# Altium footprint library 常用元件.PcbLib: 186 footprints (part 9 of 12)
Each footprint in its own frame and in the unit in brackets; x right, y up, seen from the top. Pads: shape width x height; smd on the part's side, far side on the other; paste and mask are expansions set on the pad; w line width, h text height; cw(c..) or ccw(c..) is an arc to the next point about the centre after c.
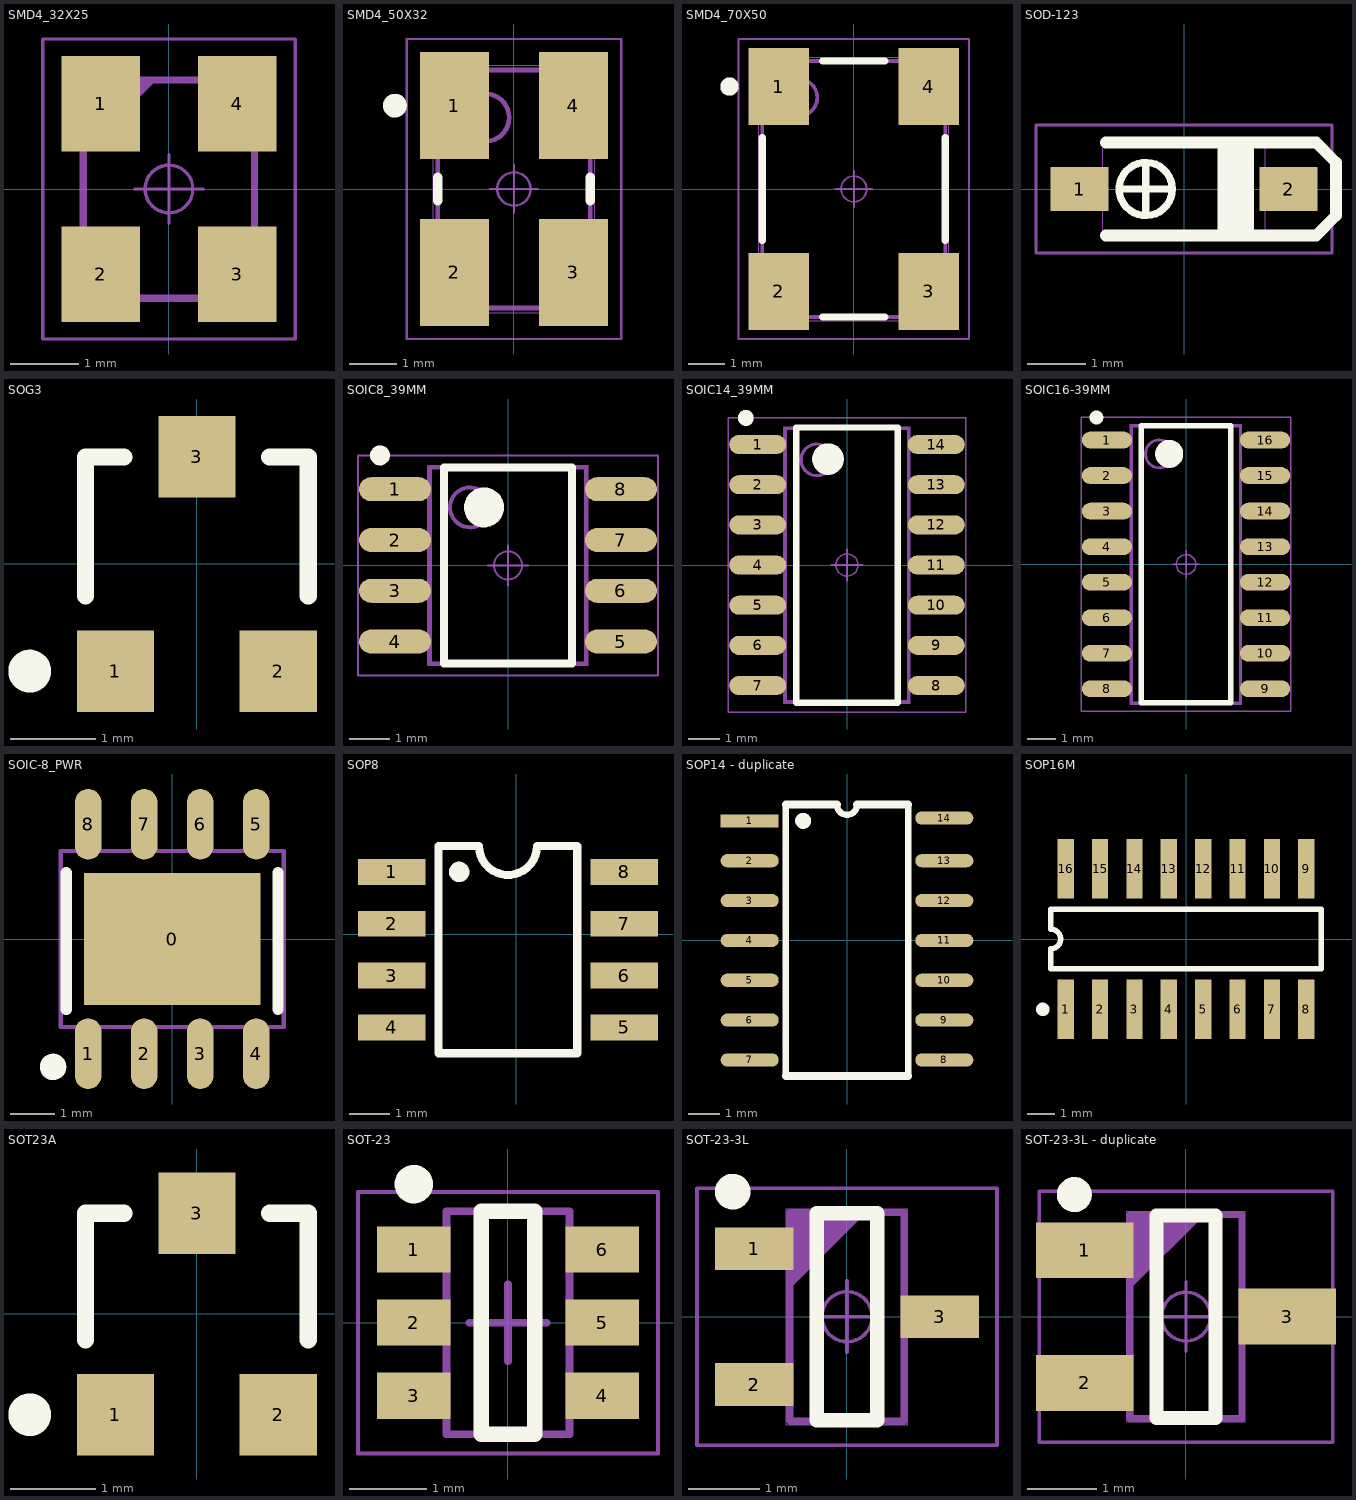
[diagram p8: the footprints below, top view; thin cyan lines are the x and y axes]

## SMD4_32X25 [mm]
pads (4):
  rect 1.15x1.4 smd: 1(-1,1.25) 2(-1,-1.25) 3(1,-1.25) 4(1,1.25)
Mechanical 15:
  lines w0.1: -1.25,0.6 -0.25,1.6 ; -1.25,0.7 -0.35,1.6 ; -1.25,0.8 -0.45,1.6 ; -1.25,0.9 -0.55,1.6 ; -1.25,1 -0.65,1.6 ; -1.25,1.1 -0.75,1.6 ; -1.25,1.2 -0.85,1.6 ; -1.25,1.3 -0.95,1.6 ; -1.25,1.4 -1.05,1.6 ; -1.25,1.5 -1.15,1.6 ; -1.25,-1.6 -1.25,1.6 1.25,1.6 1.25,-1.6 -1.25,-1.6
Mechanical 16:
  circle w0.05: c0,0 r0.35
  lines w0.001: -1.3,-1.65 -1.3,1.65 1.3,1.65 1.3,-1.65 -1.3,-1.65
  lines w0.05: -0.5,0 0.5,0 ; 0,-0.5 0,0.5 ; -1.85,-2.2 -1.85,2.2 1.85,2.2 1.85,-2.2 -1.85,-2.2

## SMD4_50X32 [mm]
pads (4):
  rect 1.45x2.25 smd: 1(-1.25,1.75) 2(-1.25,-1.75) 3(1.25,-1.75) 4(1.25,1.75)
Top Overlay:
  circle w0.25: c-2.5,1.75 r0.125
  lines w0.2: -1.6,-0.25 -1.6,0.25 ; 1.6,-0.25 1.6,0.25
Mechanical 15:
  circle w0.1: c-0.6,1.5 r0.5
  lines w0.1: -1.6,-2.5 -1.6,2.5 1.6,2.5 1.6,-2.5 -1.6,-2.5
Mechanical 16:
  circle w0.05: c0,0 r0.35
  lines w0.001: -1.7,-2.6 -1.7,2.6 1.7,2.6 1.7,-2.6 -1.7,-2.6
  lines w0.05: -0.5,0 0.5,0 ; 0,-0.5 0,0.5 ; -2.25,-3.15 -2.25,3.15 2.25,3.15 2.25,-3.15 -2.25,-3.15

## SMD4_70X50 [mm]
pads (4):
  rect 1.65x2.1 smd: 1(-2.05,2.8) 2(-2.05,-2.8) 3(2.05,-2.8) 4(2.05,2.8)
Top Overlay:
  circle w0.25: c-3.4,2.8 r0.125
  lines w0.2: -2.5,-1.4 -2.5,1.4 ; -0.85,-3.5 0.85,-3.5 ; -0.85,3.5 0.85,3.5 ; 2.5,-1.4 2.5,1.4
Mechanical 15:
  circle w0.1: c-1.5,2.5 r0.5
  lines w0.1: -2.5,-3.5 -2.5,3.5 2.5,3.5 2.5,-3.5 -2.5,-3.5
Mechanical 16:
  circle w0.05: c0,0 r0.35
  lines w0.001: -2.6,-3.6 -2.6,3.6 2.6,3.6 2.6,-3.6 -2.6,-3.6
  lines w0.05: -0.5,0 0.5,0 ; 0,-0.5 0,0.5 ; -3.15,-4.1 -3.15,4.1 3.15,4.1 3.15,-4.1 -3.15,-4.1

## SOD-123 [mm]
pads (2):
  rect 1x0.75 smd: 1(-1.8,0) 2(1.8,0)
Top Overlay:
  circle w0.127: c-0.66,0 r0.457
  lines w0.127: -1.118,0 -0.229,0 ; -0.66,-0.457 -0.66,0.457 ; 1.016,-0.762 1.016,0.8
  lines w0.2: -1.35,-0.8 1.35,-0.8 2.273,-0.8 2.616,-0.457 2.616,0.457 2.273,0.8 1.35,0.8 -1.35,0.8 ; 0.676,-0.8 0.676,0.8 ; 0.864,-0.8 0.864,0.8 ; 1.102,-0.8 1.102,0.8
Mechanical 15:
  lines w0.1: -1.35,-0.8 1.35,-0.8 ; -1.35,0.8 1.35,0.8
Mechanical 16:
  lines w0.001: -1.4,-0.85 1.4,-0.85 1.4,0.85 -1.4,0.85 -1.4,-0.85
  lines w0.05: -2.55,-1.1 2.55,-1.1 2.55,1.1 -2.55,1.1 -2.55,-1.1

## SOG3 [mm]
pads (3):
  rect 0.9x0.95 smd: 1(-0.95,-1.25) 2(0.95,-1.25) 3(0,1.25)
Top Overlay:
  circle w0.25: c-1.95,-1.25 r0.125
  lines w0.2: -1.3,-0.375 -1.3,1.25 -0.85,1.25 ; 0.85,1.25 1.3,1.25 1.3,-0.375
3D body: height 0.68, standoff -0.42, extent -1.1,-1.174 1.1,1.072

## SOIC8_39MM [mm]
pads (8):
  oval 1.8x0.6 smd: 1(-2.825,1.905) 2(-2.825,0.635) 3(-2.825,-0.635) 4(-2.825,-1.905) 5(2.825,-1.905) 6(2.825,-0.635) 7(2.825,0.635) 8(2.825,1.905)
Top Overlay:
  circle w0.5: c-0.6,1.45 r0.25
  circle w0.25: c-3.2,2.75 r0.125
  lines w0.2: -1.6,-2.45 1.6,-2.45 1.6,2.45 -1.6,2.45 -1.6,-2.45
Mechanical 15:
  circle w0.1: c-0.95,1.45 r0.5
  lines w0.1: -1.95,-2.45 1.95,-2.45 1.95,2.45 -1.95,2.45 -1.95,-2.45
  text "1" at 0.45,-0.164 h0.75
Mechanical 16:
  circle w0.05: c0,0 r0.35
  lines w0.001: -2,-2.5 2,-2.5 2,2.5 -2,2.5 -2,-2.5
  lines w0.05: -0.5,0 0.5,0 ; 0,-0.5 0,0.5 ; -3.75,-2.75 3.75,-2.75 3.75,2.75 -3.75,2.75 -3.75,-2.75

## SOIC14_39MM [mm]
pads (14):
  oval 1.8x0.6 smd: 1(-2.825,3.81) 2(-2.825,2.54) 3(-2.825,1.27) 4(-2.825,0) 5(-2.825,-1.27) 6(-2.825,-2.54) 7(-2.825,-3.81) 8(2.825,-3.81) 9(2.825,-2.54) 10(2.825,-1.27) 11(2.825,0) 12(2.825,1.27) 13(2.825,2.54) 14(2.825,3.81)
Top Overlay:
  circle w0.5: c-0.6,3.35 r0.25
  circle w0.25: c-3.2,4.65 r0.125
  lines w0.2: -1.6,-4.35 1.6,-4.35 1.6,4.35 -1.6,4.35 -1.6,-4.35
Mechanical 15:
  circle w0.1: c-0.95,3.325 r0.5
  lines w0.1: -1.95,-4.325 1.95,-4.325 1.95,4.325 -1.95,4.325 -1.95,-4.325
  text "1" at 0.45,-0.164 h0.75
Mechanical 16:
  circle w0.05: c0,0 r0.35
  lines w0.001: -2,-4.375 2,-4.375 2,4.375 -2,4.375 -2,-4.375
  lines w0.05: -0.5,0 0.5,0 ; 0,-0.5 0,0.5 ; -3.75,-4.65 3.75,-4.65 3.75,4.65 -3.75,4.65 -3.75,-4.65

## SOIC16-39MM [mm]
pads (16):
  oval 1.8x0.6 smd: 1(-2.825,4.445) 2(-2.825,3.175) 3(-2.825,1.905) 4(-2.825,0.635) 5(-2.825,-0.635) 6(-2.825,-1.905) 7(-2.825,-3.175) 8(-2.825,-4.445) 9(2.825,-4.445) 10(2.825,-3.175) 11(2.825,-1.905) 12(2.825,-0.635) 13(2.825,0.635) 14(2.825,1.905) 15(2.825,3.175) 16(2.825,4.445)
Top Overlay:
  circle w0.5: c-0.6,3.95 r0.25
  circle w0.25: c-3.2,5.25 r0.125
  lines w0.2: -1.6,-4.95 1.6,-4.95 1.6,4.95 -1.6,4.95 -1.6,-4.95
Mechanical 15:
  circle w0.1: c-0.95,3.95 r0.5
  lines w0.1: -1.95,-4.95 1.95,-4.95 1.95,4.95 -1.95,4.95 -1.95,-4.95
  text "1" at 0.45,-0.164 h0.75
Mechanical 16:
  circle w0.05: c0,0 r0.35
  lines w0.001: -1.995,-5 1.995,-5 1.995,5 -1.995,5 -1.995,-5
  lines w0.05: -0.5,0 0.5,0 ; 0,-0.5 0,0.5 ; -3.75,-5.25 3.75,-5.25 3.75,5.25 -3.75,5.25 -3.75,-5.25

## SOIC-8_PWR [mm]
pads (9):
  rect 4x3 smd: 0(0,0)
  oval 0.6x1.6 smd: 1(-1.905,-2.6) 2(-0.635,-2.6) 3(0.635,-2.6) 4(1.905,-2.6) 5(1.905,2.6) 6(0.635,2.6) 7(-0.635,2.6) 8(-1.905,2.6)
Top Overlay:
  circle w0.3: c-2.7,-2.9 r0.15
  lines w0.254: -2.4,-1.6 -2.4,1.5 ; 2.4,-1.6 2.4,1.5
Mechanical 13:
  lines w0.1: -2.525,-1.995 -2.525,1.995 2.525,1.995 2.525,-1.995 -2.525,-1.995

## SOP8 [mil]
pads (8):
  rect 65x25 smd: 1(-120,60) 2(-120,10) 3(-120,-40) 4(-120,-90) 5(104.41,-90) 6(104.41,-40) 7(104.41,10) 8(104.41,60)
Top Overlay:
  circle w9.84: c-54.92,60 r4.92
  lines w7.87: -74.8,-115 -74.8,85 -35.8,85 ccw(c-7.8,85) 20.2,85 59.06,85 59.06,-115 -74.8,-115

## SOP14 - duplicate [mm]
pads (14):
  rect 1.85x0.42 smd: 1(-3.1,3.81)
  oval 1.85x0.42 smd: 2(-3.1,2.54) 3(-3.1,1.27) 4(-3.1,0) 5(-3.1,-1.27) 6(-3.1,-2.54) 7(-3.1,-3.81) 8(3.1,-3.81) 9(3.1,-2.54) 10(3.1,-1.27) 11(3.1,0) 12(3.1,1.27) 13(3.1,2.54) 14(3.1,3.9)
Top Overlay:
  circle w0.254: c-1.397,3.81 r0.127
  lines w0.2: -1.95,-4.325 -1.95,0 -1.95,4.325 ; -0.318,4.318 ccw(c0,4.318) 0.318,4.318 ; 1.95,-4.325 1.95,4.325
  lines w0.254: -1.95,-4.325 1.95,-4.325 ; -1.95,4.325 -0.318,4.325 ; 0.318,4.325 1.95,4.325

## SOP16M [mm]
pads (16):
  rect 0.6x2.2 smd: 1(-4.445,-2.6) 2(-3.175,-2.6) 3(-1.905,-2.6) 4(-0.635,-2.6) 5(0.635,-2.6) 6(1.905,-2.6) 7(3.175,-2.6) 8(4.445,-2.6) 9(4.445,2.6) 10(3.175,2.6) 11(1.905,2.6) 12(0.635,2.6) 13(-0.635,2.6) 14(-1.905,2.6) 15(-3.175,2.6) 16(-4.445,2.6)
Top Overlay:
  circle w0.25: c-5.295,-2.6 r0.125
  lines w0.2: -5,-1.1 -5,-0.367 ccw(c-5,0) -5,0.367 -5,1.1 5,1.1 5,-1.1 -5,-1.1

## SOT23A [mm] "S9015(M6)、S8050(J3Y)"
pads (3):
  rect 0.9x0.95 smd: 1(-0.95,-1.175) 2(0.95,-1.175) 3(0,1.175)
Top Overlay:
  circle w0.25: c-1.95,-1.175 r0.125
  lines w0.2: -1.3,-0.3 -1.3,1.175 -0.85,1.175 ; 0.85,1.175 1.3,1.175 1.3,-0.3

## SOT-23 [mm] "SOT23, 6-Leads, Body 2.90x2.80mm, Pitch 0.95mm, IPC Medium Density"
height 1.45
pads (6):
  rect 0.95x0.6 smd: 1(-1.225,0.95) 2(-1.225,0) 3(-1.225,-0.95) 4(1.225,-0.95) 5(1.225,0) 6(1.225,0.95)
Top Overlay:
  circle w0.25: c-1.225,1.8 r0.125
  lines w0.2: -0.35,-1.45 0.35,-1.45 0.35,1.45 -0.35,1.45 -0.35,-1.45
Mechanical 13:
  lines w0.1: -0.8,-1.45 -0.8,1.45 0.8,1.45 0.8,-1.45 -0.8,-1.45
Mechanical 15:
  lines w0.05: -1.95,-1.7 -1.95,1.7 1.95,1.7 1.95,-1.7 -1.95,-1.7
  lines w0.1: -0.5,0 0.5,0 ; 0,-0.5 0,0.5
3D body: height 1.45, standoff 0.15, extent -0.8,-1.45 0.8,1.45

## SOT-23-3L [mm]
pads (3):
  rect 1.1x0.6 smd: 1(-1.3,0.95) 2(-1.3,-0.95) 3(1.3,0)
Top Overlay:
  circle w0.25: c-1.6,1.75 r0.125
  lines w0.2: -0.425,-1.45 -0.425,1.45 0.425,1.45 0.425,-1.45 -0.425,-1.45
Mechanical 1:
  lines w0.1: -0.8,0.46 0.2,1.46 ; -0.8,0.56 0.1,1.46 ; -0.8,0.66 0,1.46 ; -0.8,0.76 -0.1,1.46 ; -0.8,0.86 -0.2,1.46 ; -0.8,0.96 -0.3,1.46 ; -0.8,1.06 -0.4,1.46 ; -0.8,1.16 -0.5,1.46 ; -0.8,1.26 -0.6,1.46 ; -0.8,1.36 -0.7,1.46 ; -0.8,-1.46 -0.8,1.46 0.8,1.46 0.8,-1.46 -0.8,-1.46
  text "U1" at 0.36,-0.414 h0.6
Mechanical 16:
  circle w0.05: c0,0 r0.35
  lines w0.001: -0.85,-1.51 -0.85,1.51 0.85,1.51 0.85,-1.51 -0.85,-1.51
  lines w0.05: -0.5,0 0.5,0 ; 0,-0.5 0,0.5 ; -2.1,-1.8 -2.1,1.8 2.1,1.8 2.1,-1.8 -2.1,-1.8

## SOT-23-3L - duplicate [mm]
pads (3):
  rect 1.4x0.8 smd: 1(-1.45,0.95) 2(-1.45,-0.95) 3(1.45,0)
Top Overlay:
  circle w0.25: c-1.6,1.75 r0.125
  lines w0.2: -0.425,-1.45 -0.425,1.45 0.425,1.45 0.425,-1.45 -0.425,-1.45
Mechanical 1:
  lines w0.1: -0.8,0.46 0.2,1.46 ; -0.8,0.56 0.1,1.46 ; -0.8,0.66 0,1.46 ; -0.8,0.76 -0.1,1.46 ; -0.8,0.86 -0.2,1.46 ; -0.8,0.96 -0.3,1.46 ; -0.8,1.06 -0.4,1.46 ; -0.8,1.16 -0.5,1.46 ; -0.8,1.26 -0.6,1.46 ; -0.8,1.36 -0.7,1.46 ; -0.8,-1.46 -0.8,1.46 0.8,1.46 0.8,-1.46 -0.8,-1.46
  text "U1" at 0.36,-0.414 h0.6
Mechanical 16:
  circle w0.05: c0,0 r0.35
  lines w0.001: -0.85,-1.51 -0.85,1.51 0.85,1.51 0.85,-1.51 -0.85,-1.51
  lines w0.05: -0.5,0 0.5,0 ; 0,-0.5 0,0.5 ; -2.1,-1.8 -2.1,1.8 2.1,1.8 2.1,-1.8 -2.1,-1.8